# Altium schematic symbol library KTS1622EUAA-TR.SchLib: 1 symbol
Pins are listed as number, name and electrical type; pins without a type are passive.

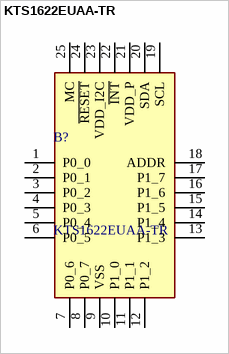
[diagram p0: symbol KTS1622EUAA-TR]

## KTS1622EUAA-TR
designator B?
Interface - I/O Expanders Low Voltage 16-Bit I2C-bus I/O Expander; Manufacturer_Name: Kinetic Technologies; Geometry.Height: 0.8mm; Mouser Part Number: 389-KTS1622EUAA-TR; Mouser Price/Stock: https://www.mouser.co.uk/ProductDetail/Kinetic-Technologies/KTS1622EUAA-TR?qs=Li%252BoUPsLEntEzhZXQXy6Rw%3D%3D; Manufacturer_Part_Number: KTS1622EUAA-TR; Datasheet Link: *
footprint QFN50P400X400X80-25N-D
pins: 1 P0_0, 2 P0_1, 3 P0_2, 4 P0_3, 5 P0_4, 6 P0_5, 7 P0_6, 8 P0_7, 9 VSS, 10 P1_0, 11 P1_1, 12 P1_2, 13 P1_3, 14 P1_4, 15 P1_5, 16 P1_6, 17 P1_7, 18 ADDR, 19 SCL, 20 SDA, 21 VDD_P, 22 ~{INT}, 23 VDD_I2C, 24 ~{RESET}, 25 MC